# Altium footprint library ChipComponents.PcbLib: 44 footprints (part 2 of 3)
Each footprint in its own frame and in the unit in brackets; x right, y up, seen from the top. Pads: shape width x height; smd on the part's side, far side on the other; paste and mask are expansions set on the pad; w line width, h text height; cw(c..) or ccw(c..) is an arc to the next point about the centre after c.
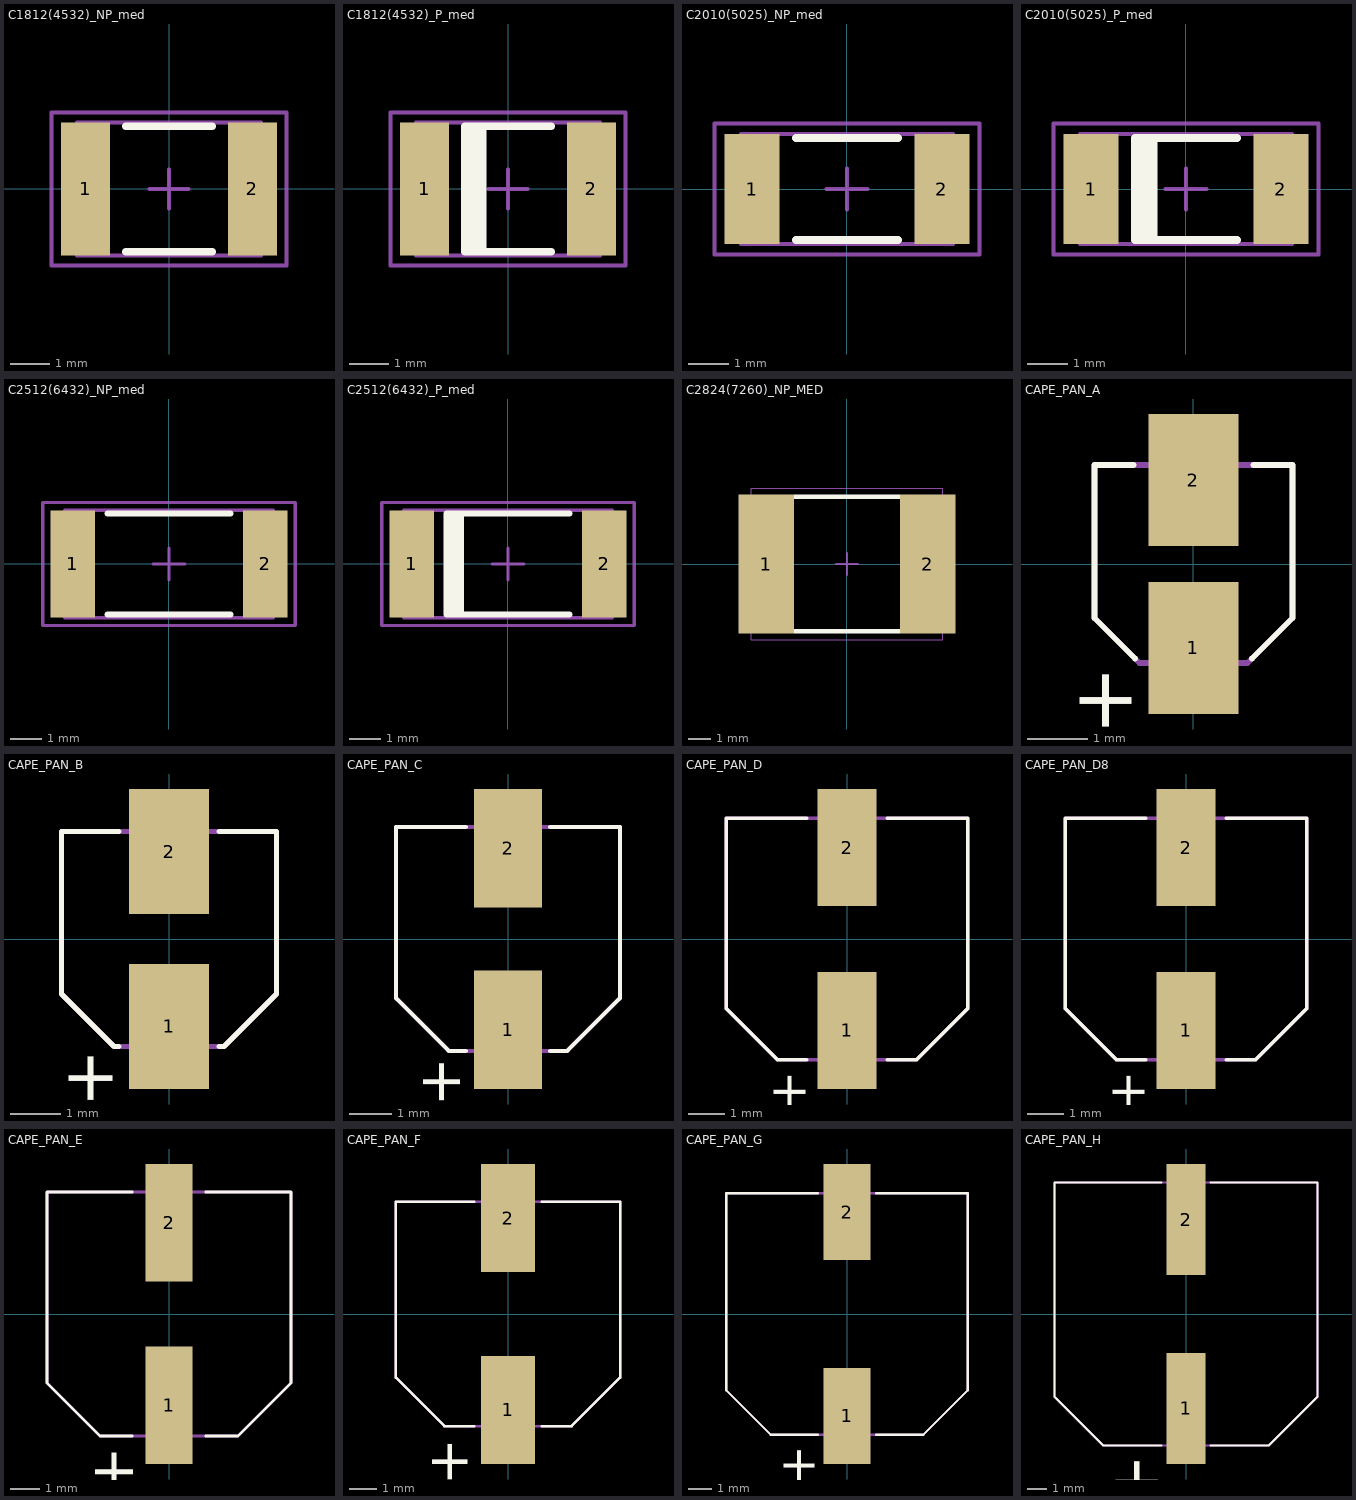
[diagram p1: the footprints below, top view; thin cyan lines are the x and y axes]

## C1812(4532)_NP_med [mm] "Chip Capacitor, 2-Leads, Body 4.5x3.2mm, IPC Medium Density"
height 0.7
pads (2):
  rect 1.25x3.4 smd: 1(-2.125,0) 2(2.125,0)
Top Overlay:
  lines w0.2: -1.1,-1.6 1.1,-1.6 ; -1.1,1.6 1.1,1.6
Mechanical 13:
  lines w0.1: -2.35,-1.7 -2.35,1.7 2.35,1.7 2.35,-1.7 -2.35,-1.7
Mechanical 15:
  lines w0.1: -0.5,0 0.5,0 ; 0,-0.5 0,0.5 ; -3,-1.95 -3,1.95 3,1.95 3,-1.95 -3,-1.95
3D body: height 0.7, standoff 0, extent -2.35,-1.7 2.35,1.7

## C1812(4532)_P_med [mm] "Chip Capacitor, 2-Leads, Body 4.5x3.2mm, IPC Medium Density"
height 0.7
pads (2):
  rect 1.25x3.4 smd: 1(-2.125,0) 2(2.125,0)
Top Overlay:
  rectangle: -1.1,-1.6 -0.55,1.6
  lines w0.2: 1.1,-1.6 -1.1,-1.6 -1.1,1.6 1.1,1.6
Mechanical 13:
  lines w0.1: -2.35,-1.7 -2.35,1.7 2.35,1.7 2.35,-1.7 -2.35,-1.7
Mechanical 15:
  lines w0.1: -0.5,0 0.5,0 ; 0,-0.5 0,0.5 ; -3,-1.95 -3,1.95 3,1.95 3,-1.95 -3,-1.95
3D body: height 0.7, standoff 0, extent -2.35,-1.7 2.35,1.7

## C2010(5025)_NP_med [mm] "Chip Capacitor, 2-Leads, Body 5.0x2.5mm, IPC Medium Density"
height 0.7
pads (2):
  rect 1.35x2.7 smd: 1(-2.325,0) 2(2.325,0)
Top Overlay:
  lines w0.2: -1.25,-1.25 1.25,-1.25 ; -1.25,1.25 1.25,1.25
Mechanical 13:
  lines w0.1: -2.6,-1.35 2.6,-1.35 2.6,1.35 -2.6,1.35 -2.6,-1.35
Mechanical 15:
  lines w0.1: -0.5,0 0.5,0 ; 0,-0.5 0,0.5 ; -3.25,-1.6 3.25,-1.6 3.25,1.6 -3.25,1.6 -3.25,-1.6
3D body: height 0.7, standoff 0, extent -2.6,-1.35 2.6,1.35

## C2010(5025)_P_med [mm] "Chip Capacitor, 2-Leads, Body 5.0x2.5mm, IPC Medium Density"
height 0.7
pads (2):
  rect 1.35x2.7 smd: 1(-2.325,0) 2(2.325,0)
Top Overlay:
  rectangle: -1.25,-1.25 -0.7,1.25
  lines w0.2: 1.25,-1.25 -1.25,-1.25 -1.25,1.25 1.25,1.25
Mechanical 13:
  lines w0.1: -2.6,-1.35 -2.6,1.35 2.6,1.35 2.6,-1.35 -2.6,-1.35
Mechanical 15:
  lines w0.1: -0.5,0 0.5,0 ; 0,-0.5 0,0.5 ; -3.25,-1.6 -3.25,1.6 3.25,1.6 3.25,-1.6 -3.25,-1.6
3D body: height 0.7, standoff 0, extent -2.6,-1.35 2.6,1.35

## C2512(6432)_NP_med [mm] "Chip Capacitor, 2-Leads, Body 6.4x3.2mm, IPC Medium Density"
height 0.7
pads (2):
  rect 1.4x3.4 smd: 1(-3.05,0) 2(3.05,0)
Top Overlay:
  lines w0.2: -1.95,-1.6 1.95,-1.6 ; -1.95,1.6 1.95,1.6
Mechanical 13:
  lines w0.1: -3.3,-1.7 3.3,-1.7 3.3,1.7 -3.3,1.7 -3.3,-1.7
Mechanical 15:
  lines w0.1: -0.5,0 0.5,0 ; 0,-0.5 0,0.5 ; -4,-1.95 4,-1.95 4,1.95 -4,1.95 -4,-1.95
3D body: height 0.7, standoff 0, extent -3.3,-1.7 3.3,1.7

## C2512(6432)_P_med [mm] "Chip Capacitor, 2-Leads, Body 6.4x3.2mm, IPC Medium Density"
height 0.7
pads (2):
  rect 1.4x3.4 smd: 1(-3.05,0) 2(3.05,0)
Top Overlay:
  rectangle: -1.95,-1.6 -1.4,1.6
  lines w0.2: 1.95,-1.6 -1.95,-1.6 -1.95,1.6 1.95,1.6
Mechanical 13:
  lines w0.1: -3.3,-1.7 -3.3,1.7 3.3,1.7 3.3,-1.7 -3.3,-1.7
Mechanical 15:
  lines w0.1: -0.5,0 0.5,0 ; 0,-0.5 0,0.5 ; -4,-1.95 -4,1.95 4,1.95 4,-1.95 -4,-1.95
3D body: height 0.7, standoff 0, extent -3.3,-1.7 3.3,1.7

## C2824(7260)_NP_MED [mm] "Chip Capacitor, 2-Leads, Body 7.20x6.10mm, IPC Medium Density"
height 5.7
pads (2):
  rect 2.5x6.25 smd: 1(-3.625,0) 2(3.625,0)
Top Overlay:
  lines w0.2: -2.35,-3.025 2.35,-3.025 ; -2.35,3.025 2.35,3.025
Mechanical 13:
  lines w0.1: -3.6,-3.05 3.6,-3.05 3.6,3.05 -3.6,3.05 -3.6,-3.05
Mechanical 15:
  lines w0.05: -4.3,-3.4 4.3,-3.4 4.3,3.4 -4.3,3.4 -4.3,-3.4
  lines w0.1: -0.5,0 0.5,0 ; 0,-0.5 0,0.5
3D body: height 5.7, standoff 0, extent 2.8,-3.05 3.6,3.05
3D body: height 5.7, standoff 0, extent -3.6,-3.05 -2.8,3.05
3D body: height 5.7, standoff 0, extent -2.8,-3.05 2.8,3.05

## CAPE_PAN_A [mm] "Panasonic 3.0x5.4"
height 5.4
pads (2):
  rect 1.5x2.2 smd: 1(0,-1.4) 2(0,1.4)
Top Overlay:
  lines w0.1: -1,1.65 -1.65,1.65 -1.65,-0.9 -0.975,-1.575 ; 0.975,-1.575 1.65,-0.9 1.65,1.65 1,1.65
  text "+" at -1.9,-1.7 h1.02
Mechanical 13:
  lines w0.1: -1.65,-0.9 -0.9,-1.65 0.9,-1.65 1.65,-0.9 1.65,1.65 -1.65,1.65 -1.65,-0.9
3D body: height 0.75, standoff 0, extent -1.65,-1.65 1.65,1.65
3D body: height 5.4, standoff 0, extent -1.488,-1.497 1.5,1.497

## CAPE_PAN_B [mm] "Panasonic 4.0x5.4"
height 5.4
pads (2):
  rect 1.6x2.5 smd: 1(0,-1.75) 2(0,1.75)
Top Overlay:
  lines w0.1: -1,-2.15 -1.1,-2.15 -2.15,-1.1 -2.15,2.15 -1,2.15 ; 1,-2.15 1.1,-2.15 2.15,-1.1 2.15,2.15 1,2.15
  text "+" at -2,-2.2 h1.02
Mechanical 13:
  lines w0.1: -2.15,-1.1 -1.1,-2.15 1.1,-2.15 2.15,-1.1 2.15,2.15 -2.15,2.15 -2.15,-1.1
3D body: height 1, standoff 0, extent -2.15,-2.15 2.15,2.15
3D body: height 5.4, standoff 0, extent -1.984,-1.996 2,1.996

## CAPE_PAN_C [mm] "Panasonic 5.0x5.4"
height 5.4
pads (2):
  rect 1.6x2.8 smd: 1(0,-2.15) 2(0,2.15)
Top Overlay:
  lines w0.1: -1,-2.65 -1.4,-2.65 -2.65,-1.4 -2.65,2.65 -1,2.65 ; 1,-2.65 1.4,-2.65 2.65,-1.4 2.65,2.65 1,2.65
  text "+" at -2,-2.8 h1.02
Mechanical 13:
  lines w0.1: -2.65,-1.4 -2.65,2.65 2.65,2.65 2.65,-1.4 1.4,-2.65 -1.4,-2.65 -2.65,-1.4
3D body: height 5.4, standoff 0, extent -2.48,-2.495 2.5,2.495
3D body: height 1, standoff 0, extent -2.65,-2.65 2.65,2.65

## CAPE_PAN_D [mm] "Panasonic 6.3x5.4"
height 5.4
pads (2):
  rect 1.6x3.2 smd: 1(0,-2.5) 2(0,2.5)
Top Overlay:
  lines w0.1: -1.1,-3.3 -1.9,-3.3 -3.3,-1.9 -3.3,3.3 -1.1,3.3 ; 1.1,-3.3 1.9,-3.3 3.3,-1.9 3.3,3.3 1.1,3.3
  text "+" at -2,-3.6 h1.02
Mechanical 13:
  lines w0.1: -3.3,-1.9 -1.9,-3.3 1.9,-3.3 3.3,-1.9 3.3,3.3 -3.3,3.3 -3.3,-1.9
3D body: height 5.4, standoff 0, extent -3.125,-3.144 3.15,3.144
3D body: height 1, standoff 0, extent -3.3,-3.3 3.3,3.3

## CAPE_PAN_D8 [mm] "Panasonic 6.3x7.7"
height 7.7
pads (2):
  rect 1.6x3.2 smd: 1(0,-2.5) 2(0,2.5)
Top Overlay:
  lines w0.1: -1.1,-3.3 -1.9,-3.3 -3.3,-1.9 -3.3,3.3 -1.1,3.3 ; 1.1,-3.3 1.9,-3.3 3.3,-1.9 3.3,3.3 1.1,3.3
  text "+" at -2,-3.6 h1.02
Mechanical 13:
  lines w0.1: -3.3,-1.9 -3.3,3.3 3.3,3.3 3.3,-1.9 1.9,-3.3 -1.9,-3.3 -3.3,-1.9
3D body: height 7.7, standoff 0, extent -3.125,-3.144 3.15,3.144
3D body: height 1, standoff 0, extent -3.3,-3.3 3.3,3.3

## CAPE_PAN_E [mm] "Panasonic 8.0x6.2"
height 6.2
pads (2):
  rect 1.6x4 smd: 1(0,-3.1) 2(0,3.1)
Top Overlay:
  lines w0.1: -1.25,-4.15 -2.35,-4.15 -4.15,-2.35 -4.15,4.15 -1.25,4.15 ; 1.25,-4.15 2.35,-4.15 4.15,-2.35 4.15,4.15 1.25,4.15
  text "+" at -2.5,-4.5 h1.52
Mechanical 13:
  lines w0.1: -4.15,-2.35 -2.35,-4.15 2.35,-4.15 4.15,-2.35 4.15,4.15 -4.15,4.15 -4.15,-2.35
3D body: height 1, standoff 0, extent -4.15,-4.15 4.15,4.15
3D body: height 6.2, standoff 0, extent -3.968,-3.992 4,3.992

## CAPE_PAN_F [mm] "Panasonic 8.0x10.2"
height 10.2
pads (2):
  rect 2x4 smd: 1(0,-3.55) 2(0,3.55)
Top Overlay:
  lines w0.1: -1.25,-4.15 -2.35,-4.15 -4.15,-2.35 -4.15,4.15 -1.25,4.15 ; 1.25,-4.15 2.35,-4.15 4.15,-2.35 4.15,4.15 1.25,4.15
  text "+" at -2.8,-4.6 h1.52
Mechanical 13:
  lines w0.1: -4.15,-2.35 -2.35,-4.15 2.35,-4.15 4.15,-2.35 4.15,4.15 -4.15,4.15 -4.15,-2.35
3D body: height 1, standoff 0, extent -4.15,-4.15 4.15,4.15
3D body: height 10.2, standoff 0, extent -3.968,-3.992 4,3.992

## CAPE_PAN_G [mm] "Panasonic 10.0x10.2"
height 10.2
pads (2):
  rect 2x4.1 smd: 1(0,-4.35) 2(0,4.35)
Top Overlay:
  lines w0.1: -1.25,-5.15 -3.25,-5.15 -5.15,-3.25 -5.15,5.15 -1.25,5.15 ; 1.25,-5.15 3.25,-5.15 5.15,-3.25 5.15,5.15 1.25,5.15
  text "+" at -2.7,-5.6 h1.52
Mechanical 13:
  lines w0.1: -5.15,-3.25 -3.25,-5.15 3.25,-5.15 5.15,-3.25 5.15,5.15 -5.15,5.15 -5.15,-3.25
3D body: height 1, standoff 0, extent -5.15,-5.15 5.15,5.15
3D body: height 10.2, standoff 0, extent -4.96,-4.99 5,4.99

## CAPE_PAN_H [mm] "Panasonic 12.5x13.5"
height 13.5
pads (2):
  rect 2x5.7 smd: 1(0,-4.85) 2(0,4.85)
Top Overlay:
  lines w0.1: -1.25,-6.75 -4.25,-6.75 -6.75,-4.25 -6.75,6.75 -1.25,6.75 ; 1.25,-6.75 4.25,-6.75 6.75,-4.25 6.75,6.75 1.25,6.75
  text "+" at -3.6,-7.2 h2.54
Mechanical 13:
  lines w0.1: -6.75,-4.25 -4.25,-6.75 4.25,-6.75 6.75,-4.25 6.75,6.75 -6.75,6.75 -6.75,-4.25
3D body: height 1, standoff 0, extent -6.75,-6.75 6.75,6.75
3D body: height 13.5, standoff 0, extent -6.201,-6.238 6.25,6.238